# EAGLE library part SC_TERM_5MM_1X8 (library trafshlib)
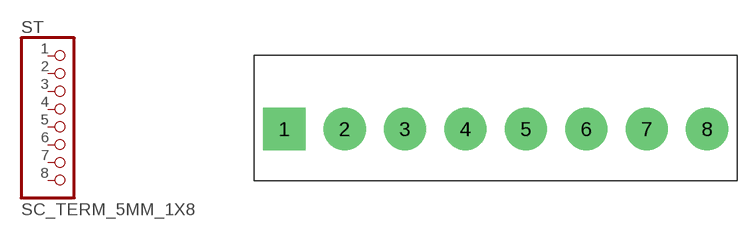
[diagram p15: symbol with the pads of SC_TERM_5MM_1X8; footprint SC_TERM_5MM_1X8]

Designator prefix ST

## SC_TERM_5MM_1X8  [SC_TERM_5MM_1X8]
1  1  pas
2  2  pas
3  3  pas
4  4  pas
5  5  pas
6  6  pas
7  7  pas
8  8  pas

## Footprint SC_TERM_5MM_1X8 (pad centres in mm)
drill 1.5 pad 3.5 square: 1 -17.5,0
drill 1.5 pad 3.5: 2 -12.5,0; 3 -7.5,0; 4 -2.5,0; 5 2.5,0; 6 7.5,0; 7 12.5,0; 8 17.5,0